# EAGLE library part SPARKFUN_SERLCD_SERIAL_REDUCED (library RemoteParts)
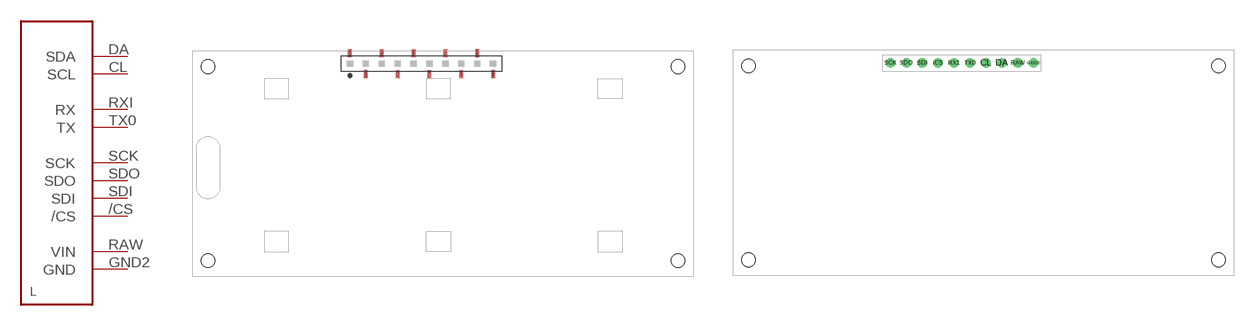
[diagram p8: symbol with the pads of SPARKFUN_SERLCD_16X2_REDUCED_SMD; footprints SPARKFUN_SERLCD_16X2_REDUCED_SMD, SPARKFUN_SERLCD_16X2_REDUCED_TH]

Designator prefix L

## SPARKFUN_SERLCD_SERIAL_REDUCED-SMD (AUX1DIST: Sparkfun; AUX1DISTPN: LCD-14072; AUX1MFR: Sparkfun; AUX1MPN: LCD-14072; CREATOR: Swanson; DESC: 10 Position Header, Top or Bottom Entry Connector Surface Mount; DIST: Digikey; DISTPN: S5641-ND; MFR: Sullins Connector Solutions; MOUNTING: SMD; MPN: NPPC101KFXC-RC)  [SPARKFUN_SERLCD_16X2_REDUCED_SMD]
/CS  /CS
CL  SCL
DA  SDA
GND2  GND
RAW  VIN
RXI  RX
SCK  SCK
SDI  SDI
SDO  SDO
TX0  TX

## SPARKFUN_SERLCD_SERIAL_REDUCED (AUX1DIST: DIGIKEY; AUX1DISTPN: 952-1842-ND; AUX2DIST: Digikey; AUX2DISTPN: S7008-ND; CREATOR: Swanson; DIST: Sparkfun; DISTPN: LCD-14072)  [SPARKFUN_SERLCD_16X2_REDUCED_TH]
/CS  /CS
CL  SCL
DA  SDA
GND2  GND
RAW  VIN
RX1  RX
SCK  SCK
SDI  SDI
SDO  SDO
TX0  TX

## Footprint SPARKFUN_SERLCD_16X2_REDUCED_SMD (pad centres in mm)
smd 0.635 x 1.27: /CS -7.24,14.336; CL 0.38,17.636; DA 2.92,14.336; GND2 8,14.336; RAW 5.46,17.636; RXI -4.7,17.636; SCK -14.86,17.636; SDI -9.78,17.636; SDO -12.32,14.336; TX0 -2.16,14.336
hole 2.2 at -37.5,-15.5
hole 2.2 at -37.5,15.5
hole 2.2 at 37.5,-15.5
hole 2.2 at 37.5,15.5

## Footprint SPARKFUN_SERLCD_16X2_REDUCED_TH (pad centres in mm)
drill 1.02: /CS -7.24,16; CL 0.38,16; DA 2.92,16; GND2 8,16; RAW 5.46,16; RX1 -4.7,16; SCK -14.86,16; SDI -9.78,16; SDO -12.32,16; TX0 -2.16,16
hole 2.2 at -37.5,-15.5
hole 2.2 at -37.5,15.5
hole 2.2 at 37.5,-15.5
hole 2.2 at 37.5,15.5